# EAGLE library part SX8725 (library 1dah)
zooming ADC
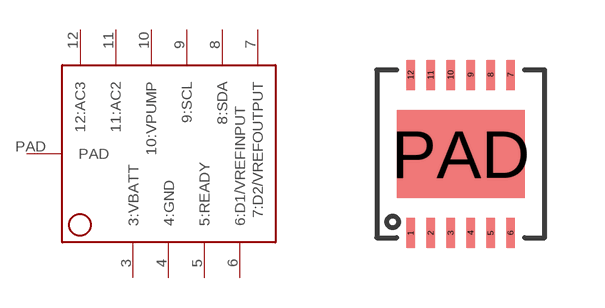
[diagram p38: symbol with the pads of MPLD-W-12-4X4; footprint MPLD-W-12-4X4]

Designator prefix -

## SX8725  [MPLD-W-12-4X4]
3  3:VBATT
4  4:GND
5  5:READY
6  6:D1/VREFINPUT
7  7:D2/VREFOUTPUT
8  8:SDA
9  9:SCL
10  10:VPUMP
11  11:AC2
12  12:AC3
PAD  PAD

## Footprint MPLD-W-12-4X4 (pad centres in mm)
smd 0.22 x 0.75: 1 -1.25,-1.98; 2 -0.75,-1.98; 3 -0.25,-1.98; 4 0.25,-1.98; 5 0.75,-1.98; 6 1.25,-1.98; 7 1.25,1.98; 8 0.75,1.98; 9 0.25,1.98; 10 -0.25,1.98; 11 -0.75,1.98; 12 -1.25,1.98
smd 3.2 x 2.2: PAD 0,0